# EAGLE library part 74LVC138APW,118 (library SamacSys_Parts)
74LVC138A - 3-to-8 line decoder/demultiplexer; inverting@en-us Source: Datasheet <https://assets.nexperia.com/documents/data-sheet/74LVC138A.pdf>
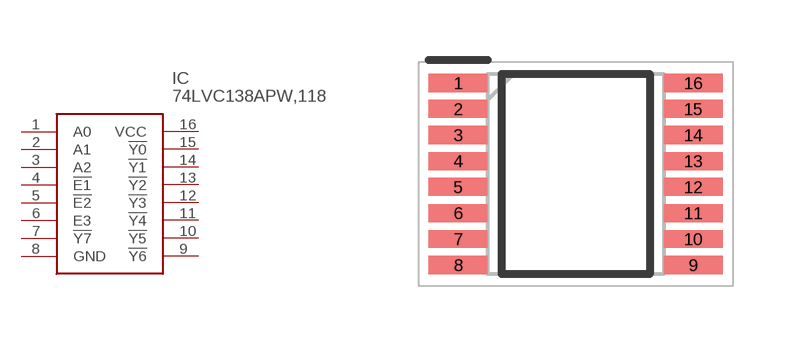
[diagram p85: symbol with the pads of SOP65P640X110-16N; footprint SOP65P640X110-16N]

Designator prefix IC

## 74LVC138APW,118 (DESCRIPTION: 74LVC138A - 3-to-8 line decoder/demultiplexer; inverting@en-us; HEIGHT: 1.1mm; MANUFACTURER_NAME: Nexperia; MANUFACTURER_PART_NUMBER: 74LVC138APW,118; MOUSER_PART_NUMBER: 771-74LVC138APW-T; MOUSER_PRICE-STOCK: https://www.mouser.co.uk/ProductDetail/Nexperia/74LVC138APW118?qs=me8TqzrmIYVmXjJtN%252BdBAw%3D%3D)  [SOP65P640X110-16N]
1  A0
2  A1
3  A2
4  !E1
5  !E2
6  E3
7  !Y7
8  GND
9  !Y6
10  !Y5
11  !Y4
12  !Y3
13  !Y2
14  !Y1
15  !Y0
16  VCC

## Footprint SOP65P640X110-16N (pad centres in mm)
SOT403-1
smd 1.475 x 0.45: 1 -2.938,2.275; 2 -2.938,1.625; 3 -2.938,0.975; 4 -2.938,0.325; 5 -2.938,-0.325; 6 -2.938,-0.975; 7 -2.938,-1.625; 8 -2.938,-2.275; 9 2.938,-2.275; 10 2.938,-1.625; 11 2.938,-0.975; 12 2.938,-0.325; 13 2.938,0.325; 14 2.938,0.975; 15 2.938,1.625; 16 2.938,2.275